# Altium footprint library Sensors.PcbLib: 20 footprints (part 2 of 2)
Each footprint in its own frame and in the unit in brackets; x right, y up, seen from the top. Pads: shape width x height; smd on the part's side, far side on the other; paste and mask are expansions set on the pad; w line width, h text height; cw(c..) or ccw(c..) is an arc to the next point about the centre after c.
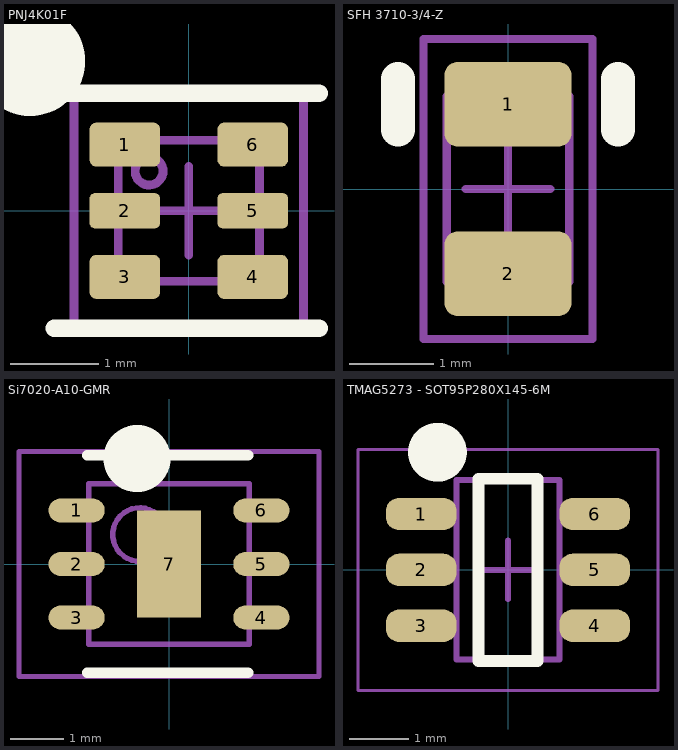
[diagram p1: the footprints below, top view; thin cyan lines are the x and y axes]

## PNJ4K01F [mm]
height 0.8
pads (6):
  rrect30% 0.8x0.5 smd paste-0.025 mask+0.08: 1(-0.725,0.75) 3(-0.725,-0.75) 4(0.725,-0.75) 6(0.725,0.75)
  rrect30% 0.8x0.4 smd paste-0.025 mask+0.08: 2(-0.725,0) 5(0.725,0)
Top Overlay:
  circle w1: c-1.8,1.7 r0.125
  lines w0.2: -1.524,-1.332 1.476,-1.332 ; -1.524,1.332 1.476,1.332
Mechanical 13:
  circle w0.1: c-0.45,0.45 r0.158
  lines w0.1: -0.8,-0.8 -0.8,0.8 0.8,0.8 0.8,-0.8 -0.8,-0.8
Mechanical 15:
  lines w0.1: -0.5,0 0.5,0 ; 0,-0.5 0,0.5 ; -1.3,-1.3 -1.3,1.3 1.3,1.3 1.3,-1.3 -1.3,-1.3
Assembly:
  text ".Designator" at -1.125,-0.3 h1.1
3D body: height 0.63, standoff 0, extent -0.8,-0.8 0.8,0.8

## SFH 3710-3/4-Z [mm] "Chip Capacitor, 2-Leads, Body 2.0x1.3mm, IPC Medium Density"
height 0.8
pads (2):
  rrect30% 1.5x1 smd paste-2.515: 1(0,1.002) 2(0,-1.002)
Top Overlay:
  lines w0.4: -1.3,0.7 -1.3,1.3 ; 1.3,0.7 1.3,1.3
Top Paste:
  region: -0.7,0.65 -0.7,1.35 -0.6,1.45 0.6,1.45 0.7,1.35 0.7,0.65 0.6,0.55 0,0.8 -0.6,0.55
  region: 0.7,-0.65 0.7,-1.35 0.6,-1.45 -0.6,-1.45 -0.7,-1.35 -0.7,-0.65 -0.6,-0.55 0,-0.8 0.6,-0.55
Mechanical 13:
  lines w0.1: -0.725,-1.1 0.725,-1.1 0.725,1.1 -0.725,1.1 -0.725,-1.1
Mechanical 15:
  lines w0.1: -0.5,0 0.5,0 ; 0,-0.5 0,0.5 ; -1,-1.775 1,-1.775 1,1.775 -1,1.775 -1,-1.775
3D body: height 0.8, standoff 0, extent -0.725,-1.1 0.725,1.1

## Si7020-A10-GMR [mm] "QFN, 6-Leads, Body 3.0x3.0mm (max), Pitch 1.00mm, IPC Medium Density"
height 0.8
pads (7):
  oval 1.05x0.45 smd: 1(-1.725,1) 2(-1.725,0) 3(-1.725,-1) 4(1.725,-1) 5(1.725,0) 6(1.725,1)
  rect 1.2x2 smd: 7(0,0)
Top Overlay:
  circle w1: c-0.597,1.968 r0.125
  lines w0.2: -1.524,-2.032 1.476,-2.032 ; -1.524,2.032 1.476,2.032
Mechanical 13:
  circle w0.1: c-0.55,0.55 r0.5
  lines w0.1: -1.5,-1.5 1.5,-1.5 1.5,1.5 -1.5,1.5 -1.5,-1.5
Mechanical 15:
  lines w0.1: -0.5,0 0.5,0 ; 0,-0.5 0,0.5 ; -2.8,-2.1 2.8,-2.1 2.8,2.1 -2.8,2.1 -2.8,-2.1
Assembly:
  text ".Designator" at -1.25,-0.275 h1.1
3D body: height 0.8, standoff 0, extent -1.5,-1.5 1.5,1.5

## TMAG5273 - SOT95P280X145-6M [mm] "SOT23, 6-Leads, Body 2.90x2.80mm, Pitch 0.95mm, IPC Low Density"
height 1.45
pads (6):
  rrect80% 1.2x0.55 smd paste-0.05: 1(-1.475,0.95) 2(-1.475,0) 3(-1.475,-0.95) 4(1.475,-0.95) 5(1.475,0) 6(1.475,0.95)
Top Overlay:
  circle w0.5: c-1.2,2 r0.25
  lines w0.2: -0.5,-1.55 -0.5,1.55 0.5,1.55 0.5,-1.55 -0.5,-1.55
Mechanical 13:
  lines w0.1: -0.875,-1.525 0.875,-1.525 0.875,1.525 -0.875,1.525 -0.875,-1.525
Mechanical 15:
  lines w0.05: -2.55,-2.05 2.55,-2.05 2.55,2.05 -2.55,2.05 -2.55,-2.05
  lines w0.1: -0.5,0 0.5,0 ; 0,-0.5 0,0.5
3D body: height 1.45, standoff 0, extent -0.875,-1.525 0.875,1.525